# Altium footprint library FU_tube_20x5.PcbLib: 1 footprints
Each footprint in its own frame and in the unit in brackets; x right, y up, seen from the top. Pads: shape width x height; smd on the part's side, far side on the other; paste and mask are expansions set on the pad; w line width, h text height; cw(c..) or ccw(c..) is an arc to the next point about the centre after c.

## FU_tube_20x5 [mm] "20x5mm fuse"
3D body: height 2.5, standoff -2.5, extent 0,0 5,20